# Altium integrated library Library.IntLib: 629 symbols (part 3 of 21)
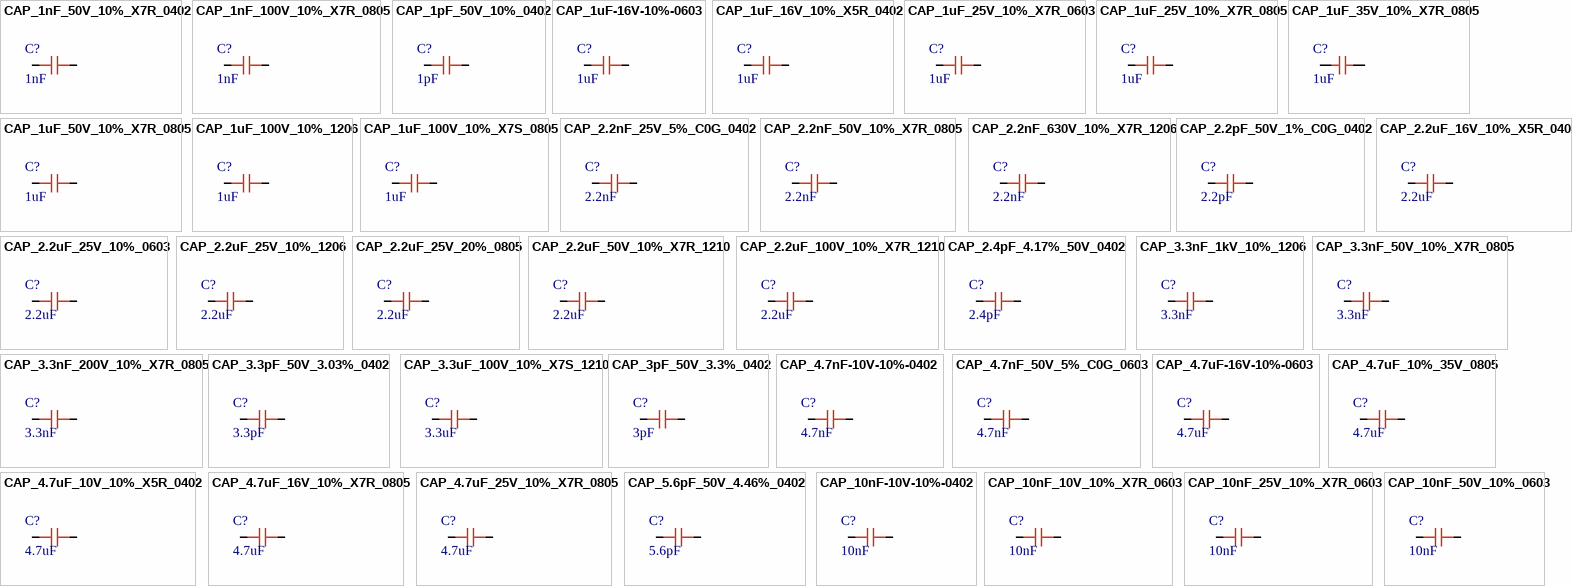
[diagram p20: symbols CAP_1nF_50V_10%_X7R_0402 to CAP_10nF_50V_10%_0603]

## CAP_2.2uF_16V_10%_X5R_0402
designator C?, comment 2.2uF
Ceramic Capacitor, Multilayer, Ceramic, 16V, 10% +Tol, 10% -Tol, X5R, 15% TC, 2.2uF, Surface Mount, 0402; Manufacturer: Yageo; Manufacturer Part Number: CC0402KRX5R7BB225; Multilayer: Yes; Supplier: Future Electronics; Supplier Part Number: 8114800; RoHS: Yes; Category: Ceramic Capacitors; Stock: 150000; Pricing: 10000=0.017, 30000=0.0164, 40000=0.0163, 100000=0.0158, 150000=0.0153 (USD); Mounting Technology: Surface Mount; Pins: 2; Dielectric Material: Ceramic; Package Shape: Rectangular; Case/Package: 0402; Terminal Finish: Nickel; Min Operating Temperature: -55°C; Max Operating Temperature: 85°C; JESD-609 Code: e3; Value: 2.2uF; Capacitor Type: Ceramic; Tolerance  (fill in as +-): 10%; Package Style: SMTMeter; Packaging: Tape and Reel; Tolerance (fill in as +-): 10%; Rated DC Voltage (URdc): 16V; Temperature Characteristics Code: X5R; Termination: Wraparound; Length: 1mm; Width: 0.5mm; Height: 0.5mm; Reach SVHC Compliant: Yes; RoHS Compliant: Yes; ComponentLink1URL: https://datasheet.ciiva.com:443/pdfs/VipMasterIC/IC/YAGO/YAGO-S-A0006851646/YAGO-S-A0006851646-1.pdf?src-supplier=IHS+Markit; ComponentLink1Description: https://datasheet.ciiva.com:443/pdfs/VipMasterIC/IC/YAGO/YAGO-S-A0006851646/YAGO-S-A0006851646-1.pdf?src-supplier=IHS+Markit; ComponentLink2URL: http://www.mouser.com/ds/2/447/Yageo_UPY-GP_NP0_16V-to-50V_9-358835.pdf?src-supplier=Mouser; ComponentLink2Description: http://www.mouser.com/ds/2/447/Yageo_UPY-GP_NP0_16V-to-50V_9-358835.pdf?src-supplier=Mouser; ComponentLink3URL: http://www.yageo.com/documents/recent/UPY-GPHC_X5R_4V-to-50V_25.pdf?src-supplier=Digikey; ComponentLink3Description: http://www.yageo.com/documents/recent/UPY-GPHC_X5R_4V-to-50V_25.pdf?src-supplier=Digikey; ComponentLink4URL: https://www.yageo.com/upload/media/product/productsearch/datasheet/mlcc/UPY-GPHC_X5R_4V-to-50V_25.pdf?src-supplier=Digikey; ComponentLink4Description: https://www.yageo.com/upload/media/product/productsearch/datasheet/mlcc/UPY-GPHC_X5R_4V-to-50V_25.pdf?src-supplier=Digikey; ComponentLink5URL: https://datasheet.octopart.com/CC0402KRX5R7BB225-Yageo-datasheet-158238148.pdf?src-supplier=Newark; ComponentLink5Description: https://datasheet.octopart.com/CC0402KRX5R7BB225-Yageo-datasheet-158238148.pdf?src-supplier=Newark; ComponentLink6URL: https://datasheet.octopart.com/CC0402KRX5R7BB225-Yageo-datasheet-137700082.pdf?src-supplier=Future+Electronics; ComponentLink6Description: https://datasheet.octopart.com/CC0402KRX5R7BB225-Yageo-datasheet-137700082.pdf?src-supplier=Future+Electronics; ComponentLink7URL: https://datasheet.octopart.com/CC0402KRX5R7BB225-Yageo-datasheet-158238148.pdf?src-supplier=Farnell; ComponentLink7Description: https://datasheet.octopart.com/CC0402KRX5R7BB225-Yageo-datasheet-158238148.pdf?src-supplier=Farnell
footprint CAP_0402
pins: 1, 2

## CAP_2.2uF_25V_10%_0603
designator C?, comment 2.2uF
Multilayer Ceramic Capacitor, 2.2 uF, 25 V, ± 10%, X5R, 0603 [1608 Metric]; Manufacturer: TDK; Manufacturer Part Number: C1608X5R1E225K080AB; Material: 4241ConductorMaterial; Voltage Rating (DC): 25V; Supplier 1: Digi-Key; RoHS: Yes; Category: Ceramic Capacitors; Stock 1: 49100; Pricing 1: 1=0.17, 10=0.116, 50=0.0696, 100=0.0588, 500=0.04026, 1000=0.03561 (USD); Mount: Surface Mount; Case/Package: 0603; Dielectric Material: Ceramic; Case Code (Metric): 1608; Case Code (Imperial): 0603; Weight: 7.1E-05oz; Min Operating Temperature: -55°C; Max Operating Temperature: 85°C; Capacitance: 2.2uF; Tolerance: 10%; Packaging: Tape and Reel; Dielectric: X5R; Package Quantity: 4000; Voltage Rating: 25V; Termination: SMD/SMT; Series: C; Length: 1.6mm; Width: 0.8mm; Height: 0.8mm; Depth: 0.8mm; Radiation Hardening: No; Lead Free: Lead Free; Reach SVHC Compliant: No; RoHS Compliant: Yes; ComponentLink1URL: https://datasheet.ciiva.com/28451/1796654-28451166.pdf?src-supplier=Element14; ComponentLink1Description: https://datasheet.ciiva.com/28451/1796654-28451166.pdf?src-supplier=Element14; ComponentLink2URL: https://datasheet.ciiva.com/28693/mlcc-commercial-general-en-28693433.pdf?src-supplier=Element14; ComponentLink2Description: https://datasheet.ciiva.com/28693/mlcc-commercial-general-en-28693433.pdf?src-supplier=Element14; ComponentLink3URL: https://datasheet.ciiva.com/6290/tdkmlcccaprange-6290830.pdf?src-supplier=Digi-Key; ComponentLink3Description: https://datasheet.ciiva.com/6290/tdkmlcccaprange-6290830.pdf?src-supplier=Digi-Key; ComponentLink4URL: https://datasheet.ciiva.com/26834/getdatasheetpartid-750446-26834363.pdf?src-supplier=Verical; ComponentLink4Description: https://datasheet.ciiva.com/26834/getdatasheetpartid-750446-26834363.pdf?src-supplier=Verical; ComponentLink5URL: https://datasheet.ciiva.com/24220/mlcc-commercial-general-en-24220495.pdf?src-supplier=Mouser; ComponentLink5Description: https://datasheet.ciiva.com/24220/mlcc-commercial-general-en-24220495.pdf?src-supplier=Mouser; Supplier Part Number 1: 445-5964-1-ND
footprint CAP_0603 (Chip Capacitor 0603, 2-Leads, Body 1.68x0.88mm, IPC Medium Density)
pins: 1, 2

## CAP_2.2uF_25V_10%_1206
designator C?, comment 2.2uF
Ceramic Capacitor, Multilayer, Ceramic, 25V, 10% +Tol, 10% -Tol, X7R, 15% TC, 2.2uF, Surface Mount, 1206; Manufacturer: Taiyo Yuden; Manufacturer Part Number: TMK316B7225KL-T; Multilayer: Yes; Supplier: Digikey; Supplier Part Number: 587-1329-1-ND; RoHS: Yes; Category: Ceramic Capacitors; Stock: 48732; Pricing: 1=0.28, 10=0.162, 100=0.1042, 1000=0.07405 (USD); Mounting Technology: Surface Mount; Pins: 2; Dielectric Material: Ceramic; Package Shape: Rectangular; Case/Package: 1206; Terminal Finish: Tin; Min Operating Temperature: -55°C; Max Operating Temperature: 125°C; JESD-609 Code: e3; Value: 2.2uF; Capacitor Type: Ceramic; Tolerance  (fill in as +-): 10%; Package Style: SMTMeter; Packaging: Tape and Reel; Tolerance (fill in as +-): 10%; Rated DC Voltage (URdc): 25V; Temperature Characteristics Code: X7R; Termination: Wraparound; Length: 3.2mm; Width: 1.6mm; Height: 1.6mm; Reach SVHC Compliant: Yes; RoHS Compliant: Yes; ComponentLink1URL: https://datasheet.ciiva.com:443/pdfs/VipMasterIC/IC/TAIY/TAIY-S-A0007941248/TAIY-S-A0007940709-1.pdf?src-supplier=IHS+Markit; ComponentLink1Description: https://datasheet.ciiva.com:443/pdfs/VipMasterIC/IC/TAIY/TAIY-S-A0007941248/TAIY-S-A0007940709-1.pdf?src-supplier=IHS+Markit; ComponentLink2URL: https://datasheet.ciiva.com/137/tmk316b7225kl-t-ss-137190.pdf?src-supplier=Digikey; ComponentLink2Description: https://datasheet.ciiva.com/137/tmk316b7225kl-t-ss-137190.pdf?src-supplier=Digikey; ComponentLink3URL: https://datasheet.ciiva.com/30067/322tmk316b7225kl-t-30067429.pdf?src-supplier=Onlinecomponents.com; ComponentLink3Description: https://datasheet.ciiva.com/30067/322tmk316b7225kl-t-30067429.pdf?src-supplier=Onlinecomponents.com; ComponentLink4URL: https://datasheet.ciiva.com/7975/746258-7975596.pdf?src-supplier=Element14; ComponentLink4Description: https://datasheet.ciiva.com/7975/746258-7975596.pdf?src-supplier=Element14; ComponentLink5URL: https://datasheet.ciiva.com/7975/746258-7975836.pdf?src-supplier=Element14; ComponentLink5Description: https://datasheet.ciiva.com/7975/746258-7975836.pdf?src-supplier=Element14; ComponentLink6URL: https://datasheet.ciiva.com/28645/746258-28645285.pdf?src-supplier=Element14; ComponentLink6Description: https://datasheet.ciiva.com/28645/746258-28645285.pdf?src-supplier=Element14; ComponentLink7URL: https://datasheet.ciiva.com/15922/cmultilayerceramiccapacitor-15922408.pdf?src-supplier=Onlinecomponents.com; ComponentLink7Description: https://datasheet.ciiva.com/15922/cmultilayerceramiccapacitor-15922408.pdf?src-supplier=Onlinecomponents.com
footprint CAP_1206
pins: 1, 2

## CAP_2.2uF_25V_20%_0805
designator C?, comment 2.2uF
Ceramic Capacitor, Multilayer, Ceramic, 25V, 20% +Tol, 20% -Tol, X7R, 15% TC, 2.2uF, Surface Mount, 0805; Manufacturer: TDK; Manufacturer Part Number: C2012X7R1E225M125AB; Multilayer: Yes; Supplier: Arrow Electronics; Supplier Part Number: C2012X7R1E225M125AB; RoHS: Yes; Category: Ceramic Capacitors; Stock: 3554; Pricing: 1=0.0608, 10=0.0363, 25=0.0359, 50=0.0355, 100=0.0333, 250=0.0311, 500=0.0288, 1000=0.0266, 3000=0.0243 (USD); Mounting Technology: Surface Mount; Pins: 2; Dielectric Material: Ceramic; Package Shape: Rectangular; Case/Package: 0805; Terminal Finish: Nickel; Min Operating Temperature: -55°C; Max Operating Temperature: 125°C; JESD-609 Code: e3; Value: 2.2uF; Capacitor Type: Ceramic; Tolerance  (fill in as +-): 20%; Package Style: SMTMeter; Packaging: Tape and Reel; Tolerance (fill in as +-): 20%; Rated DC Voltage (URdc): 25V; Temperature Characteristics Code: X7R; Termination: Wraparound; Length: 2mm; Width: 1.25mm; Height: 1.25mm; Reach SVHC Compliant: Yes; RoHS Compliant: Yes; ComponentLink1URL: https://datasheet.ciiva.com:443/pdfs/VipMasterIC/IC/TDKC/TDKC-S-A0008796792/TDKC-S-A0008796792-1.pdf?src-supplier=IHS+Markit; ComponentLink1Description: https://datasheet.ciiva.com:443/pdfs/VipMasterIC/IC/TDKC/TDKC-S-A0008796792/TDKC-S-A0008796792-1.pdf?src-supplier=IHS+Markit; ComponentLink2URL: https://datasheet.ciiva.com/24217/c2012x7r1e225m125ab-265010-24217309.pdf?src-supplier=Mouser; ComponentLink2Description: https://datasheet.ciiva.com/24217/c2012x7r1e225m125ab-265010-24217309.pdf?src-supplier=Mouser; ComponentLink3URL: https://datasheet.ciiva.com/6252/tdkmlcccaprange-6252327.pdf?src-supplier=Digikey; ComponentLink3Description: https://datasheet.ciiva.com/6252/tdkmlcccaprange-6252327.pdf?src-supplier=Digikey; ComponentLink4URL: https://datasheet.ciiva.com/6252/tdkmlcccaprange-6252331.pdf?src-supplier=Digikey; ComponentLink4Description: https://datasheet.ciiva.com/6252/tdkmlcccaprange-6252331.pdf?src-supplier=Digikey; ComponentLink5URL: https://datasheet.ciiva.com/6252/tdkmlcccaprange-6252335.pdf?src-supplier=Digikey; ComponentLink5Description: https://datasheet.ciiva.com/6252/tdkmlcccaprange-6252335.pdf?src-supplier=Digikey
footprint CAP_1206
pins: 1, 2

## CAP_2.2uF_50V_10%_X7R_1210
designator C?, comment 2.2uF
Ceramic Capacitor, Multilayer, Ceramic, 50V, 10% +Tol, 10% -Tol, X7R, 15% TC, 2.2uF, Surface Mount, 1210; Manufacturer: KEMET; Manufacturer Part Number: C1210C225K5RACTU; Multilayer: Yes; Supplier: Digi-Key; Supplier Part Number: 399-C1210C225K5RAC7800CT-ND; RoHS: Yes; Category: Ceramic Capacitors; Stock: 58852; Pricing: 1=0.56, 10=0.373, 50=0.2972, 100=0.2454, 500=0.1917, 1000=0.16294 (USD); Mounting Technology: Surface Mount; Pins: 2; Terminal Finish: Nickel; Dielectric Material: Ceramic; Package Shape: Rectangular; Case/Package: 1210; Min Operating Temperature: -55°C; Max Operating Temperature: 125°C; JESD-609 Code: e3; Value: 2.2uF; Capacitor Type: Ceramic; Tolerance  (fill in as +-): 10%; Package Style: SMTMeter; Packaging: Tape and Reel; Tolerance (fill in as +-): 10%; Rated DC Voltage (URdc): 50V; Temperature Characteristics Code: X7R; Termination: Wraparound; Length: 3.2mm; Width: 2.5mm; Height: 1.25mm; Reach SVHC Compliant: Yes; RoHS Compliant: Yes; ComponentLink1URL: https://datasheet.ciiva.com:443/pdfs/VipMasterIC/IC/KEME/KEME-S-A0008991654/KEME-S-A0008991654-1.pdf?src-supplier=IHS+Markit; ComponentLink1Description: https://datasheet.ciiva.com:443/pdfs/VipMasterIC/IC/KEME/KEME-S-A0008991654/KEME-S-A0008991654-1.pdf?src-supplier=IHS+Markit; ComponentLink2URL: https://datasheet.ciiva.com/7807/1693454-7807221.pdf?src-supplier=Element14; ComponentLink2Description: https://datasheet.ciiva.com/7807/1693454-7807221.pdf?src-supplier=Element14; ComponentLink3URL: https://datasheet.ciiva.com/7807/1693454-7807222.pdf?src-supplier=Element14; ComponentLink3Description: https://datasheet.ciiva.com/7807/1693454-7807222.pdf?src-supplier=Element14
footprint CAP_1210
pins: 1, 2

## CAP_2.2uF_100V_10%_X7R_1210
designator C?, comment 2.2uF
Ceramic Capacitor, Multilayer, Ceramic, 100V, 10% +Tol, 10% -Tol, X7R, 15% TC, 2.2uF, Surface Mount, 1210; Manufacturer: KEMET; Manufacturer Part Number: C1210C225K1RACTU; Multilayer: Yes; Supplier: Mouser; Supplier Part Number: 80-C1210C225K1R; RoHS: Yes; Category: Ceramic Capacitors; Stock: 86615; Pricing: 1=0.69, 10=0.466, 50=0.466, 100=0.306, 1000=0.206, 10000=0.159 (USD); Mounting Technology: Surface Mount; Pins: 2; Dielectric Material: Ceramic; Package Shape: Rectangular; Case/Package: 1210; Terminal Finish: Nickel; Min Operating Temperature: -55°C; Max Operating Temperature: 125°C; JESD-609 Code: e3; Termination: Wraparound; Value: 2.2uF; Capacitor Type: Ceramic; Tolerance  (fill in as +-): 10%; Package Style: SMTMeter; Packaging: Tape and Reel; Tolerance (fill in as +-): 10%; Rated DC Voltage (URdc): 100V; Temperature Characteristics Code: X7R; Length: 3.2mm; Width: 2.5mm; Height: 1.9mm; Reach SVHC Compliant: Yes; RoHS Compliant: Yes; ComponentLink1URL: https://datasheet.ciiva.com:443/pdfs/VipMasterIC/IC/KEME/KEME-S-A0008991654/KEME-S-A0008991654-1.pdf?src-supplier=IHS+Markit; ComponentLink1Description: https://datasheet.ciiva.com:443/pdfs/VipMasterIC/IC/KEME/KEME-S-A0008991654/KEME-S-A0008991654-1.pdf?src-supplier=IHS+Markit; ComponentLink2URL: https://datasheet.ciiva.com/16624/datasheetpn-c1210c225k1rac7800-16624822.pdf?; ComponentLink2Description: https://datasheet.ciiva.com/16624/datasheetpn-c1210c225k1rac7800-16624822.pdf?; ComponentLink3URL: https://datasheet.ciiva.com/7807/kem-c1002-x7r-smd-7807527.pdf?src-supplier=Element14; ComponentLink3Description: https://datasheet.ciiva.com/7807/kem-c1002-x7r-smd-7807527.pdf?src-supplier=Element14
footprint CAP_1210
pins: 1, 2

## CAP_2.4pF_4.17%_50V_0402
designator C?, comment 2.4pF
Ceramic Capacitor, Multilayer, Ceramic, 50V, 4.17% +Tol, 4.17% -Tol, C0G, 30ppm/Cel TC, 0.0000024uF, Surface Mount, 0402; Manufacturer: Murata; Manufacturer Part Number: GJM1555C1H2R4BB01D; Multilayer: Yes; Supplier: Mouser; Supplier Part Number: 81-GJM1555C1H2R4BB01; RoHS: Yes; Category: Ceramic Capacitors; Stock: 42734; Pricing: 1=0.1, 10=0.04, 50=0.04, 100=0.025, 1000=0.022, 10000=0.013 (USD); Mounting Technology: Surface Mount; Pins: 2; Dielectric Material: Ceramic; Package Shape: Rectangular; Case/Package: 0402; Terminal Finish: Nickel; Min Operating Temperature: -55°C; Max Operating Temperature: 125°C; JESD-609 Code: e3; Value: 2.4pF; Capacitor Type: Ceramic; Tolerance  (fill in as +-): 4.17%; Package Style: SMTMeter; Packaging: Tape and Reel; Tolerance (fill in as +-): 4.17%; Rated DC Voltage (URdc): 50V; Temperature Characteristics Code: C0G; Termination: Wraparound; Length: 1mm; Width: 0.5mm; Height: 0.5mm; Reach SVHC Compliant: Yes; RoHS Compliant: Yes; ComponentLink1URL: https://datasheet.ciiva.com:443/pdfs/VipMasterIC/IC/MURE/MURE-S-A0004378008/MURE-S-A0004383707-1.pdf?src-supplier=IHS+Markit; ComponentLink1Description: https://datasheet.ciiva.com:443/pdfs/VipMasterIC/IC/MURE/MURE-S-A0004378008/MURE-S-A0004383707-1.pdf?src-supplier=IHS+Markit; ComponentLink2URL: https://datasheet.ciiva.com/29541/partnumbering-e-01-29541979.pdf?src-supplier=Digikey; ComponentLink2Description: https://datasheet.ciiva.com/29541/partnumbering-e-01-29541979.pdf?src-supplier=Digikey; ComponentLink3URL: https://datasheet.ciiva.com/29541/partnumbering-e-01-29541980.pdf?src-supplier=Digikey; ComponentLink3Description: https://datasheet.ciiva.com/29541/partnumbering-e-01-29541980.pdf?src-supplier=Digikey; ComponentLink4URL: https://datasheet.ciiva.com/29541/partnumbering-e-01-29541981.pdf?src-supplier=Digikey; ComponentLink4Description: https://datasheet.ciiva.com/29541/partnumbering-e-01-29541981.pdf?src-supplier=Digikey
footprint CAP_0402
pins: 1, 2

## CAP_3.3nF_1kV_10%_1206
designator C?, comment 3.3nF
Ceramic Capacitor, Multilayer, Ceramic, 1000V, 10% +Tol, 10% -Tol, X7R, 15% TC, 0.0033uF, Surface Mount, 1206; Manufacturer: Yageo; Manufacturer Part Number: CC1206KKX7RCBB332; Multilayer: Yes; Rated DC Voltage (URdc): 1kV; Supplier: Rs; Supplier Part Number: 1992038; RoHS: Yes; Category: Ceramic Capacitors; Stock: 650; Pricing: 1=0.1136, 5=0.0966, 10=0.0738, 20=0.0624 (EUR); Mounting Technology: Surface Mount; Pins: 2; Dielectric Material: Ceramic; Package Shape: Rectangular; Case/Package: 1206; Terminal Finish: Nickel; Min Operating Temperature: -55°C; Max Operating Temperature: 125°C; JESD-609 Code: e3; Value: 3.3nF; Capacitor Type: Ceramic; Tolerance  (fill in as +-): 10%; Package Style: SMTMeter; Packaging: Tape and Reel; Tolerance (fill in as +-): 10%; Temperature Characteristics Code: X7R; Termination: Wraparound; Length: 3.2mm; Width: 1.6mm; Height: 1.25mm; Reach SVHC Compliant: Yes; RoHS Compliant: Yes; ComponentLink1URL: https://datasheet.ciiva.com:443/pdfs/VipMasterIC/IC/YAGO/YAGO-S-A0000113014/YAGO-S-A0000113014-1.pdf?src-supplier=IHS+Markit; ComponentLink1Description: https://datasheet.ciiva.com:443/pdfs/VipMasterIC/IC/YAGO/YAGO-S-A0000113014/YAGO-S-A0000113014-1.pdf?src-supplier=IHS+Markit; ComponentLink2URL: https://datasheet.ciiva.com/26863/getdatasheetpartid-655487-26863105.pdf?src-supplier=Verical; ComponentLink2Description: https://datasheet.ciiva.com/26863/getdatasheetpartid-655487-26863105.pdf?src-supplier=Verical; ComponentLink3URL: https://datasheet.ciiva.com/13209/upy-gp-np0-16v-to-50v-8-13209676.pdf?src-supplier=Mouser; ComponentLink3Description: https://datasheet.ciiva.com/13209/upy-gp-np0-16v-to-50v-8-13209676.pdf?src-supplier=Mouser
footprint CAP_1206
pins: 1, 2

## CAP_3.3nF_50V_10%_X7R_0805
designator C?, comment 3.3nF
Ceramic Capacitor, Multilayer, Ceramic, 50V, 10% +Tol, 10% -Tol, X7R, 15% TC, 0.0033uF, Surface Mount, 0805; Manufacturer: KEMET; Manufacturer Part Number: C0805C332K5RACTU; Multilayer: Yes; Supplier: Mouser; Supplier Part Number: 80-C0805C332K5R; RoHS: Yes; Category: Ceramic Capacitors; Stock: 47904; Pricing: 1=0.1, 10=0.033, 50=0.033, 100=0.019, 1000=0.014, 10000=0.01 (USD); Mounting Technology: Surface Mount; Pins: 2; Dielectric Material: Ceramic; Package Shape: Rectangular; Case/Package: 0805; Terminal Finish: Nickel; Min Operating Temperature: -55°C; Max Operating Temperature: 125°C; JESD-609 Code: e3; Value: 3.3nF; Capacitor Type: Ceramic; Tolerance  (fill in as +-): 10%; Packaging: Tape and Reel; Tolerance (fill in as +-): 10%; Rated DC Voltage (URdc): 50V; Temperature Characteristics Code: X7R; Termination: Wraparound; Reach SVHC Compliant: Yes; RoHS Compliant: Yes; ComponentLink1URL: https://datasheet.ciiva.com:443/pdfs/VipMasterIC/IC/KEME/KEME-S-A0000339944/KEME-S-A0000339944-1.pdf?src-supplier=IHS+Markit; ComponentLink1Description: https://datasheet.ciiva.com:443/pdfs/VipMasterIC/IC/KEME/KEME-S-A0000339944/KEME-S-A0000339944-1.pdf?src-supplier=IHS+Markit; ComponentLink2URL: https://datasheet.ciiva.com/7842/1851736-7842314.pdf?src-supplier=Element14; ComponentLink2Description: https://datasheet.ciiva.com/7842/1851736-7842314.pdf?src-supplier=Element14; ComponentLink3URL: https://datasheet.ciiva.com/14589/70095383-14589486.pdf?src-supplier=Allied+Electronics; ComponentLink3Description: https://datasheet.ciiva.com/14589/70095383-14589486.pdf?src-supplier=Allied+Electronics; ComponentLink4URL: https://datasheet.ciiva.com/5415/kem-c1002-x7r-smd-357932-5415032.pdf?src-supplier=Mouser; ComponentLink4Description: https://datasheet.ciiva.com/5415/kem-c1002-x7r-smd-357932-5415032.pdf?src-supplier=Mouser; ComponentLink5URL: https://datasheet.ciiva.com/26948/getdatasheetpartid-385720-26948486.pdf?src-supplier=Verical; ComponentLink5Description: https://datasheet.ciiva.com/26948/getdatasheetpartid-385720-26948486.pdf?src-supplier=Verical; ComponentLink6URL: https://datasheet.ciiva.com/7842/kem-c1002-x7r-smd-7842598.pdf?src-supplier=Element14; ComponentLink6Description: https://datasheet.ciiva.com/7842/kem-c1002-x7r-smd-7842598.pdf?src-supplier=Element14
footprint CAP_0805
pins: 1, 2

## CAP_3.3nF_200V_10%_X7R_0805
designator C?, comment 3.3nF
Ceramic Capacitor, Multilayer, Ceramic, 200V, 10% +Tol, 10% -Tol, X7R, 15% TC, 0.0033uF, Surface Mount, 0805; Manufacturer: Kyocera AVX; Manufacturer Part Number: 08052C332KAT2A; Multilayer: Yes; Supplier: Rs; Supplier Part Number: 1356665; RoHS: Yes; Category: Ceramic Capacitors; Stock: 1300; Pricing: 100=0.088, 500=0.082, 1000=0.075, 2500=0.07, 5000=0.064 (EUR); Mounting Technology: Surface Mount; Pins: 2; Dielectric Material: Ceramic; Package Shape: Rectangular; Case/Package: 0805; Terminal Finish: Nickel; Min Operating Temperature: -55°C; Max Operating Temperature: 125°C; JESD-609 Code: e3; Value: 3.3nF; Capacitor Type: Ceramic; Tolerance  (fill in as +-): 10%; Package Style: SMTMeter; Packaging: Tape and Reel; Tolerance (fill in as +-): 10%; Rated DC Voltage (URdc): 200V; Temperature Characteristics Code: X7R; Termination: Wraparound; Length: 2.01mm; Width: 1.25mm; Height: 0.94mm; Reach SVHC Compliant: Yes; RoHS Compliant: Yes; ComponentLink1URL: https://datasheet.ciiva.com:443/pdfs/VipMasterIC/IC/AVXC/AVXC-S-A0009640452/AVXC-S-A0009640452-1.pdf?src-supplier=IHS+Markit; ComponentLink1Description: https://datasheet.ciiva.com:443/pdfs/VipMasterIC/IC/AVXC/AVXC-S-A0009640452/AVXC-S-A0009640452-1.pdf?src-supplier=IHS+Markit; ComponentLink2URL: https://datasheet.ciiva.com/26904/getdatasheetpartid-564906-26904203.pdf?src-supplier=Verical; ComponentLink2Description: https://datasheet.ciiva.com/26904/getdatasheetpartid-564906-26904203.pdf?src-supplier=Verical; ComponentLink3URL: https://datasheet.ciiva.com/5423/cx7r-218113-5423334.pdf?src-supplier=Mouser; ComponentLink3Description: https://datasheet.ciiva.com/5423/cx7r-218113-5423334.pdf?src-supplier=Mouser; ComponentLink4URL: https://datasheet.ciiva.com/152/cx7r-152246.pdf?src-supplier=Digikey; ComponentLink4Description: https://datasheet.ciiva.com/152/cx7r-152246.pdf?src-supplier=Digikey; ComponentLink5URL: https://datasheet.ciiva.com/152/cx7r-152247.pdf?src-supplier=Digikey; ComponentLink5Description: https://datasheet.ciiva.com/152/cx7r-152247.pdf?src-supplier=Digikey; ComponentLink6URL: https://datasheet.ciiva.com/152/cx7r-152248.pdf?src-supplier=Digikey; ComponentLink6Description: https://datasheet.ciiva.com/152/cx7r-152248.pdf?src-supplier=Digikey
footprint CAP_0805
pins: 1, 2

## CAP_3.3pF_50V_3.03%_0402
designator C?, comment 3.3pF
Ceramic Capacitor, Multilayer, Ceramic, 50V, 3.03% +Tol, 3.03% -Tol, C0G, 30ppm/Cel TC, 0.0000033uF, Surface Mount, 0402; Manufacturer: Murata; Manufacturer Part Number: GJM1555C1H3R3BB01D; Multilayer: Yes; Supplier: Mouser; Supplier Part Number: 81-GJM1555C1H3R3BB01; RoHS: Yes; Category: Ceramic Capacitors; Stock: 74193; Pricing: 1=0.12, 10=0.057, 50=0.057, 100=0.034, 1000=0.025, 10000=0.017 (USD); Mounting Technology: Surface Mount; Pins: 2; Dielectric Material: Ceramic; Package Shape: Rectangular; Case/Package: 0402; Terminal Finish: Nickel; Min Operating Temperature: -55°C; Max Operating Temperature: 125°C; JESD-609 Code: e3; Value: 3.3pF; Capacitor Type: Ceramic; Tolerance  (fill in as +-): 3.03%; Package Style: SMTMeter; Packaging: Tape and Reel; Tolerance (fill in as +-): 3.03%; Rated DC Voltage (URdc): 50V; Temperature Characteristics Code: C0G; Termination: Wraparound; Length: 1mm; Width: 0.5mm; Height: 0.5mm; Reach SVHC Compliant: Yes; RoHS Compliant: Yes; ComponentLink1URL: https://datasheet.ciiva.com:443/pdfs/VipMasterIC/IC/MURE/MURE-S-A0008911154/MURE-S-A0008911150-1.pdf?src-supplier=IHS+Markit; ComponentLink1Description: https://datasheet.ciiva.com:443/pdfs/VipMasterIC/IC/MURE/MURE-S-A0008911154/MURE-S-A0008911150-1.pdf?src-supplier=IHS+Markit; ComponentLink2URL: https://datasheet.ciiva.com/8030/1700175-8030120.pdf?src-supplier=Element14; ComponentLink2Description: https://datasheet.ciiva.com/8030/1700175-8030120.pdf?src-supplier=Element14; ComponentLink3URL: https://datasheet.ciiva.com/11614/product-11614199.pdf?src-supplier=Avnet; ComponentLink3Description: https://datasheet.ciiva.com/11614/product-11614199.pdf?src-supplier=Avnet
footprint CAP_0402
pins: 1, 2

## CAP_3.3uF_100V_10%_X7S_1210
designator C?, comment 3.3uF
Ceramic Capacitor, Multilayer, Ceramic, 100V, 10% +Tol, 10% -Tol, X7S, 22% TC, 3.3uF, Surface Mount, 1210; Manufacturer: TDK; Manufacturer Part Number: C3225X7S2A335K200AB; Multilayer: Yes; Supplier: Mouser; Supplier Part Number: 810-C3225X7S2A335K; RoHS: Yes; Category: Ceramic Capacitors; Stock: 85774; Pricing: 1=0.61, 10=0.394, 50=0.394, 100=0.348, 1000=0.27, 10000=0.228 (USD); Mounting Technology: Surface Mount; Pins: 2; Dielectric Material: Ceramic; Package Shape: Rectangular; Case/Package: 1210; Terminal Finish: Nickel; Min Operating Temperature: -55°C; Max Operating Temperature: 125°C; JESD-609 Code: e3; Value: 3.3uF; Capacitor Type: Ceramic; Tolerance  (fill in as +-): 10%; Package Style: SMTMeter; Packaging: Tape and Reel; Tolerance (fill in as +-): 10%; Rated DC Voltage (URdc): 100V; Temperature Characteristics Code: X7S; Termination: Wraparound; Length: 3.2mm; Width: 2.5mm; Height: 2mm; Reach SVHC Compliant: Yes; RoHS Compliant: Yes; ComponentLink1URL: https://datasheet.ciiva.com:443/pdfs/VipMasterIC/IC/TDKC/TDKC-S-A0008591847/TDKC-S-A0008591847-1.pdf?src-supplier=IHS+Markit; ComponentLink1Description: https://datasheet.ciiva.com:443/pdfs/VipMasterIC/IC/TDKC/TDKC-S-A0008591847/TDKC-S-A0008591847-1.pdf?src-supplier=IHS+Markit; ComponentLink2URL: http://components.arrow.com/part/dataview/57434406S459360N1165?src-supplier=Arrow+Electronics; ComponentLink2Description: http://components.arrow.com/part/dataview/57434406S459360N1165?src-supplier=Arrow+Electronics; ComponentLink3URL: https://product.tdk.com/info/en/documents/chara_sheet/C3225X7S2A335K200AB.pdf?src-supplier=Digikey; ComponentLink3Description: https://product.tdk.com/info/en/documents/chara_sheet/C3225X7S2A335K200AB.pdf?src-supplier=Digikey; ComponentLink4URL: https://product.tdk.com/info/en/catalog/datasheets/mlcc_commercial_midvoltage_en.pdf?ref_disty=digikey&src-supplier=Digikey; ComponentLink4Description: https://product.tdk.com/info/en/catalog/datasheets/mlcc_commercial_midvoltage_en.pdf?ref_disty=digikey&src-supplier=Digikey; ComponentLink5URL: https://4donline.ihs.com/images/VipMasterIC/IC/TDKC/TDKC-S-A0000596732/TDKC-S-A0000596732-1.pdf?hkey=52A5661711E402568146F3353EA87419&src-supplier=Farnell; ComponentLink5Description: https://4donline.ihs.com/images/VipMasterIC/IC/TDKC/TDKC-S-A0000596732/TDKC-S-A0000596732-1.pdf?hkey=52A5661711E402568146F3353EA87419&src-supplier=Farnell; ComponentLink6URL: https://4donline.ihs.com/images/VipMasterIC/IC/TDKC/TDKC-S-A0000596732/TDKC-S-A0000596732-1.pdf?hkey=52A5661711E402568146F3353EA87419&src-supplier=Newark; ComponentLink6Description: https://4donline.ihs.com/images/VipMasterIC/IC/TDKC/TDKC-S-A0000596732/TDKC-S-A0000596732-1.pdf?hkey=52A5661711E402568146F3353EA87419&src-supplier=Newark; ComponentLink7URL: https://datasheet.octopart.com/C3225X7S2A335K200AB-TDK-datasheet-10497308.pdf?src-supplier=Future+Electronics; ComponentLink7Description: https://datasheet.octopart.com/C3225X7S2A335K200AB-TDK-datasheet-10497308.pdf?src-supplier=Future+Electronics; ComponentLink8URL: https://datasheet.octopart.com/C3225X7S2A335K200AB-TDK-datasheet-43914167.pdf?src-supplier=Newark; ComponentLink8Description: https://datasheet.octopart.com/C3225X7S2A335K200AB-TDK-datasheet-43914167.pdf?src-supplier=Newark; ComponentLink9URL: http://www.farnell.com/datasheets/2860696.pdf?src-supplier=Newark; ComponentLink9Description: http://www.farnell.com/datasheets/2860696.pdf?src-supplier=Newark; ComponentLink10URL: http://www.farnell.com/datasheets/1936671.pdf?src-supplier=Element14; ComponentLink10Description: http://www.farnell.com/datasheets/1936671.pdf?src-supplier=Element14; ComponentLink11URL: http://www.farnell.com/datasheets/1913358.pdf?src-supplier=Element14; ComponentLink11Description: http://www.farnell.com/datasheets/1913358.pdf?src-supplier=Element14
footprint CAP_1210
pins: 1, 2

## CAP_3pF_50V_3.3%_0402
designator C?, comment 3pF
Ceramic Capacitor, Multilayer, Ceramic, 50V, 3.33% +Tol, 3.33% -Tol, C0G, 30ppm/Cel TC, 0.000003uF, Surface Mount, 0402; Manufacturer: Murata; Manufacturer Part Number: GJM1555C1H3R0BB01D; Multilayer: Yes; Supplier: Mouser; Supplier Part Number: 81-GJM1555C1H3R0BB01; RoHS: Yes; Category: Ceramic Capacitors; Stock: 135633; Pricing: 1=0.11, 10=0.057, 50=0.057, 100=0.034, 1000=0.022, 10000=0.014 (USD); Mounting Technology: Surface Mount; Pins: 2; Dielectric Material: Ceramic; Package Shape: Rectangular; Case/Package: 0402; Terminal Finish: Nickel; Min Operating Temperature: -55°C; Max Operating Temperature: 125°C; JESD-609 Code: e3; Value: 3pF; Capacitor Type: Ceramic; Tolerance  (fill in as +-): 3.33%; Package Style: SMTMeter; Packaging: Tape and Reel; Tolerance (fill in as +-): 3.33%; Rated DC Voltage (URdc): 50V; Temperature Characteristics Code: C0G; Termination: Wraparound; Length: 1mm; Width: 0.5mm; Height: 0.5mm; Reach SVHC Compliant: Yes; RoHS Compliant: Yes; ComponentLink1URL: https://datasheet.ciiva.com:443/pdfs/VipMasterIC/IC/MURE/MURE-S-A0008911154/MURE-S-A0008911143-1.pdf?src-supplier=IHS+Markit; ComponentLink1Description: https://datasheet.ciiva.com:443/pdfs/VipMasterIC/IC/MURE/MURE-S-A0008911154/MURE-S-A0008911143-1.pdf?src-supplier=IHS+Markit; ComponentLink2URL: https://datasheet.ciiva.com/29542/partnumbering-e-01-29542367.pdf?src-supplier=Digikey; ComponentLink2Description: https://datasheet.ciiva.com/29542/partnumbering-e-01-29542367.pdf?src-supplier=Digikey
footprint CAP_0402
pins: 1, 2

## CAP_4.7nF-10V-10%-0402
designator C?, comment 4.7nF
Super Low Distortion Multilayer Ceramic Capacitors, 10V, 4700 pF, ± 10 %, 0402, RoHS; Manufacturer: Taiyo Yuden; Manufacturer Part Number: LMK105SD472KV-F; Case/Package: 0402; Supplier-1: Digikey; Supplier 1: Digi-Key; Manufacturer 1: Taiyo Yuden; Manufacturer Part Number 1: LMK105SD472KV-F; RoHS: Yes; Category: Ceramic Capacitors; Stock 1: 18613; Pricing 1: 1=0.3, 10=0.207, 50=0.145, 100=0.1242, 500=0.09318, 1000=0.07868, 2500=0.07454, 5000=0.0704 (USD); ComponentLink1URL: https://datasheet.ciiva.com/25612/0900766b8109988b-25612786.pdf?src-supplier=Rs; ComponentLink1Description: https://datasheet.ciiva.com/25612/0900766b8109988b-25612786.pdf?src-supplier=Rs; ComponentLink2URL: https://datasheet.ciiva.com/31394/1760254-31394326.pdf?src-supplier=Farnell; ComponentLink2Description: https://datasheet.ciiva.com/31394/1760254-31394326.pdf?src-supplier=Farnell; ComponentLink3URL: https://datasheet.ciiva.com/138/lmk105sd472kv-f-ss-138081.pdf?src-supplier=Digi-Key; ComponentLink3Description: https://datasheet.ciiva.com/138/lmk105sd472kv-f-ss-138081.pdf?src-supplier=Digi-Key; ComponentLink4URL: https://datasheet.ciiva.com/138/mlcc07-e-138082.pdf?src-supplier=Digi-Key; ComponentLink4Description: https://datasheet.ciiva.com/138/mlcc07-e-138082.pdf?src-supplier=Digi-Key; ComponentLink5URL: https://datasheet.ciiva.com/138/mlcc07-e-138083.pdf?src-supplier=Digi-Key; ComponentLink5Description: https://datasheet.ciiva.com/138/mlcc07-e-138083.pdf?src-supplier=Digi-Key; Supplier Part Number 1: 587-1068-1-ND
footprint CAP_0402 (Capacitor)
pins: 1, 2

## CAP_4.7nF_50V_5%_C0G_0603
designator C?, comment 4.7nF
Multilayer Ceramic Capacitor, 4700 pF, 50 V, ± 5%, C0G (NP0), 0603 [1608 Metric]; Manufacturer: KEMET; Manufacturer Part Number: C0603C472J5GACTU; Material: 4241ConductorMaterial; Voltage: 50V; Temperature Coefficient: 30ppm/°C; Supplier: Digikey; Supplier Part Number: 399-C0603C472J5GAC7867CT-ND; RoHS: Yes; Category: Ceramic Capacitors; Stock: 52218; Pricing: 1=0.3, 10=0.195, 50=0.1436, 100=0.1169, 500=0.09226, 1000=0.07791 (USD); Mounting Technology: Surface Mount; Case/Package: 0603; Pins: 2NUMBER; Case Code (Imperial): 0603; Case Code (Metric): 1608; Dielectric Material: 4241ConductorMaterial; Min Operating Temperature: -55°C; Max Operating Temperature: 125°C; Tolerance: 5%; Value: 4.7nF; Dielectric: C0G; Packaging: Tape and Reel; Package Quantity: 1; Series: C; Termination: SMD/SMT; Construction: Flat; Voltage Rating (DC): 50V; Length: 1.6mm; Width: 0.031inch; Height: 0.8mm; Depth: 0.8mm; Thickness: 0.034inch; Radiation Hardening: No; Reach SVHC Compliant: No; RoHS Compliant: Yes; Lead Free: 5697LeadFree; ComponentLink1URL: https://datasheet.ciiva.com/6074/f9080b-0402-series-c0g-6074652.pdf?src-supplier=Farnell; ComponentLink1Description: https://datasheet.ciiva.com/6074/f9080b-0402-series-c0g-6074652.pdf?src-supplier=Farnell; ComponentLink2URL: https://datasheet.ciiva.com/7824/1372242-7824041.pdf?src-supplier=Element14; ComponentLink2Description: https://datasheet.ciiva.com/7824/1372242-7824041.pdf?src-supplier=Element14; ComponentLink3URL: https://datasheet.ciiva.com/28584/1372242-28584136.pdf?src-supplier=Element14; ComponentLink3Description: https://datasheet.ciiva.com/28584/1372242-28584136.pdf?src-supplier=Element14; ComponentLink4URL: https://datasheet.ciiva.com/5424/kem-c1003-c0g-smd-5424557.pdf?src-supplier=Mouser; ComponentLink4Description: https://datasheet.ciiva.com/5424/kem-c1003-c0g-smd-5424557.pdf?src-supplier=Mouser; ComponentLink5URL: https://datasheet.ciiva.com/18193/getdatasheetpartid-560209-18193082.pdf?src-supplier=Verical; ComponentLink5Description: https://datasheet.ciiva.com/18193/getdatasheetpartid-560209-18193082.pdf?src-supplier=Verical
footprint CAP_0603
pins: 1, 2

## CAP_4.7uF-16V-10%-0603
designator C?, comment 4.7uF
GRM Series 16 V 4.7 µF 0603 Surface Mount Multilayer Ceramic Chip Capacitor; Manufacturer: Murata Electronics; Manufacturer Part Number: GRM188R61C475KAAJD; Manufacturer 1: Murata; Case/Package: 0603; Supplier-1: Digikey; Supplier 1: Mouser; Manufacturer Part Number 1: GRM188R61C475KAAJD; RoHS: Yes; Category: Ceramic Capacitors; Stock 1: 707885; Pricing 1: 1=0.28, 10=0.194, 50=0.194, 100=0.117, 1000=0.074, 10000=0.06 (USD); ComponentLink1URL: https://datasheet.ciiva.com/14813/595grm188r61c475kaaj23-14813668.pdf?src-supplier=Arrow+Electronics; ComponentLink1Description: https://datasheet.ciiva.com/14813/595grm188r61c475kaaj23-14813668.pdf?src-supplier=Arrow+Electronics; Supplier Part Number 1: 81-GRM188R61C475KAJD
footprint CAP_0603 (Capacitor)
pins: 1, 2

## CAP_4.7uF_10%_35V_0805
designator C?, comment 4.7uF
Ceramic Capacitor, Multilayer, Ceramic, 35V, 10% +Tol, 10% -Tol, X5R, 15% TC, 4.7uF, Surface Mount, 0805; Manufacturer: Samsung; Manufacturer Part Number: CL21A475KLCLQNC; Multilayer: Yes; Supplier: Digikey; Supplier Part Number: 1276-6722-1-ND; RoHS: Yes; Category: Ceramic Capacitors; Stock: 177619; Pricing: 1=0.17, 10=0.097, 50=0.0676, 100=0.0588, 500=0.0436, 1000=0.03889 (USD); Mounting Technology: Surface Mount; Pins: 2; Dielectric Material: Ceramic; Package Shape: Rectangular; Case/Package: 0805; Min Operating Temperature: -55°C; Max Operating Temperature: 85°C; Value: 4.7uF; Capacitor Type: Ceramic; Tolerance  (fill in as +-): 10%; Packaging: Tape and Reel; Tolerance (fill in as +-): 10%; Rated DC Voltage (URdc): 35V; Temperature Characteristics Code: X5R; Termination: Wraparound; Reach SVHC Compliant: Yes; RoHS Compliant: Yes; ComponentLink1URL: https://datasheet.ciiva.com:443/pdfs/VipMasterIC/IC/SEMS/SEMS-S-A0008525088/SEMS-S-A0008525101-1.pdf?src-supplier=IHS+Markit; ComponentLink1Description: https://datasheet.ciiva.com:443/pdfs/VipMasterIC/IC/SEMS/SEMS-S-A0008525088/SEMS-S-A0008525101-1.pdf?src-supplier=IHS+Markit; ComponentLink2URL: http://www.samsungsem.com/kr/support/product-search/mlcc/CL21A475KLCLQNC.jsp?src-supplier=Digikey; ComponentLink2Description: http://www.samsungsem.com/kr/support/product-search/mlcc/CL21A475KLCLQNC.jsp?src-supplier=Digikey; ComponentLink3URL: https://datasheet.octopart.com/CL21A475KLCLQNC-Samsung-Electro-Mechanics-datasheet-136031818.pdf?src-supplier=Future+Electronics; ComponentLink3Description: https://datasheet.octopart.com/CL21A475KLCLQNC-Samsung-Electro-Mechanics-datasheet-136031818.pdf?src-supplier=Future+Electronics
footprint CAP_0805
pins: 1, 2

## CAP_4.7uF_10V_10%_X5R_0402
designator C?, comment 4.7uF
Ceramic Capacitor, Multilayer, Ceramic, 10V, 10% +Tol, 10% -Tol, X5R, 15% TC, 4.7uF, Surface Mount, 0402; Manufacturer: TDK; Manufacturer Part Number: C1005X5R1A475K050BC; Multilayer: Yes; Supplier: Avnet; Supplier Part Number: 68AH9424; RoHS: Yes; Category: Ceramic Capacitors; Stock: 20000; Pricing: 10000=0.088 (USD); Mounting Technology: Surface Mount; Pins: 2; Dielectric Material: Ceramic; Package Shape: Rectangular; Case/Package: 0402; Terminal Finish: Nickel; Min Operating Temperature: -55°C; Max Operating Temperature: 85°C; JESD-609 Code: e3; Value: 4.7uF; Capacitor Type: Ceramic; Tolerance  (fill in as +-): 10%; Package Style: SMTMeter; Packaging: Tape and Reel; Tolerance (fill in as +-): 10%; Rated DC Voltage (URdc): 10V; Temperature Characteristics Code: X5R; Termination: Wraparound; Length: 1mm; Width: 0.5mm; Height: 0.5mm; Reach SVHC Compliant: Yes; RoHS Compliant: Yes; ComponentLink1URL: https://datasheet.ciiva.com:443/pdfs/VipMasterIC/IC/TDKC/TDKC-S-A0008796792/TDKC-S-A0008796792-1.pdf?src-supplier=IHS+Markit; ComponentLink1Description: https://datasheet.ciiva.com:443/pdfs/VipMasterIC/IC/TDKC/TDKC-S-A0008796792/TDKC-S-A0008796792-1.pdf?src-supplier=IHS+Markit; ComponentLink2URL: https://datasheet.ciiva.com/14895/tdkmlcccaprange-14895671.pdf?src-supplier=Digikey; ComponentLink2Description: https://datasheet.ciiva.com/14895/tdkmlcccaprange-14895671.pdf?src-supplier=Digikey; ComponentLink3URL: https://datasheet.ciiva.com/14895/tdkmlcccaprange-14895670.pdf?src-supplier=Digikey; ComponentLink3Description: https://datasheet.ciiva.com/14895/tdkmlcccaprange-14895670.pdf?src-supplier=Digikey; ComponentLink4URL: https://datasheet.ciiva.com/14895/tdkmlcccaprange-14895672.pdf?src-supplier=Digikey; ComponentLink4Description: https://datasheet.ciiva.com/14895/tdkmlcccaprange-14895672.pdf?src-supplier=Digikey
footprint CAP_0402
pins: 1, 2

## CAP_4.7uF_16V_10%_X7R_0805
designator C?, comment 4.7uF
Ceramic Capacitor, Multilayer, Ceramic, 16V, 10% +Tol, 10% -Tol, X7R, 15% TC, 4.7uF, Surface Mount, 0805; Manufacturer: Murata; Manufacturer Part Number: GRM21BR71C475KE51L; Multilayer: Yes; Supplier: Farnell; Supplier Part Number: 2688537; RoHS: Yes; Category: Ceramic Capacitors; Stock: 25429; Pricing: 5=0.0773, 50=0.0454, 250=0.0356, 500=0.0258, 1500=0.0253 (EUR); Mounting Technology: Surface Mount; Pins: 2; Dielectric Material: Ceramic; Package Shape: Rectangular; Case/Package: 0805; Terminal Finish: Nickel; Min Operating Temperature: -55°C; Max Operating Temperature: 125°C; JESD-609 Code: e3; Value: 4.7uF; Capacitor Type: Ceramic; Tolerance  (fill in as +-): 10%; Packaging: Tape and Reel; Tolerance (fill in as +-): 10%; Rated DC Voltage (URdc): 16V; Temperature Characteristics Code: X7R; Termination: Wraparound; Reach SVHC Compliant: Yes; RoHS Compliant: Yes; ComponentLink1URL: https://datasheet.ciiva.com:443/pdfs/VipMasterIC/IC/MURE/MURE-S-A0004349797/MURE-S-A0004361408-1.pdf?src-supplier=IHS+Markit; ComponentLink1Description: https://datasheet.ciiva.com:443/pdfs/VipMasterIC/IC/MURE/MURE-S-A0004349797/MURE-S-A0004361408-1.pdf?src-supplier=IHS+Markit; ComponentLink2URL: http://www.farnell.com/datasheets/2189142.pdf?src-supplier=Farnell; ComponentLink2Description: http://www.farnell.com/datasheets/2189142.pdf?src-supplier=Farnell; ComponentLink3URL: http://search.murata.co.jp/Ceramy/image/img/A01X/G101/ENG/GRM21BR71C475KE51-01.pdf?src-supplier=Digikey; ComponentLink3Description: http://search.murata.co.jp/Ceramy/image/img/A01X/G101/ENG/GRM21BR71C475KE51-01.pdf?src-supplier=Digikey; ComponentLink4URL: https://datasheet.octopart.com/GRM21BR71C475KE51L-Murata-datasheet-68590491.pdf?src-supplier=Newark; ComponentLink4Description: https://datasheet.octopart.com/GRM21BR71C475KE51L-Murata-datasheet-68590491.pdf?src-supplier=Newark
footprint CAP_0805
pins: 1, 2

## CAP_4.7uF_25V_10%_X7R_0805
designator C?, comment 4.7uF
Ceramic Capacitor, Multilayer, Ceramic, 25V, 10% +Tol, 10% -Tol, X7R, 15% TC, 4.7uF, Surface Mount, 0805; Manufacturer: KEMET; Manufacturer Part Number: C0805C475K3RACAUTO; Supplier: Rs; Supplier Part Number: 1882142; RoHS: Yes; Category: Ceramic Capacitors; Stock: 6450; Pricing: 25=0.308, 100=0.27, 500=0.258, 1000=0.247 (EUR); RoHS Compliant: Yes; ComponentLink1URL: https://datasheet.ciiva.com:443/pdfs/VipMasterIC/IC/KEME/KEME-S-A0009891634/KEME-S-A0009891634-1.pdf?src-supplier=IHS+Markit; ComponentLink1Description: https://datasheet.ciiva.com:443/pdfs/VipMasterIC/IC/KEME/KEME-S-A0009891634/KEME-S-A0009891634-1.pdf?src-supplier=IHS+Markit; ComponentLink2URL: https://api.kemet.com/component-edge/download/datasheet/C0805C475K3RACAUTO.pdf?src-supplier=Digikey; ComponentLink2Description: https://api.kemet.com/component-edge/download/datasheet/C0805C475K3RACAUTO.pdf?src-supplier=Digikey; ComponentLink3URL: https://datasheet.octopart.com/C0805C475K3RACAUTO-KEMET-datasheet-149529924.pdf?src-supplier=Element14; ComponentLink3Description: https://datasheet.octopart.com/C0805C475K3RACAUTO-KEMET-datasheet-149529924.pdf?src-supplier=Element14; ComponentLink4URL: http://www.farnell.com/datasheets/2818558.pdf?src-supplier=Newark; ComponentLink4Description: http://www.farnell.com/datasheets/2818558.pdf?src-supplier=Newark; ComponentLink5URL: https://datasheet.octopart.com/C0805C475K3RACAUTO-KEMET-datasheet-140424753.pdf?src-supplier=TME; ComponentLink5Description: https://datasheet.octopart.com/C0805C475K3RACAUTO-KEMET-datasheet-140424753.pdf?src-supplier=TME
footprint CAP_0805
pins: 1, 2

## CAP_5.6pF_50V_4.46%_0402
designator C?, comment 5.6pF
Ceramic Capacitor, Multilayer, Ceramic, 50V, 4.46% +Tol, 4.46% -Tol, C0G, 30ppm/Cel TC, 0.0000056uF, Surface Mount, 0402; Manufacturer: Murata; Manufacturer Part Number: GJM1555C1H5R6CB01D; Multilayer: Yes; Supplier: Mouser; Supplier Part Number: 81-GJM1555C1H5R6CB01; RoHS: Yes; Category: Ceramic Capacitors; Stock: 72241; Pricing: 1=0.1, 10=0.032, 50=0.032, 100=0.02, 1000=0.013, 10000=0.008 (USD); Mounting Technology: Surface Mount; Pins: 2; Dielectric Material: Ceramic; Package Shape: Rectangular; Case/Package: 0402; Terminal Finish: Nickel; Min Operating Temperature: -55°C; Max Operating Temperature: 125°C; JESD-609 Code: e3; Value: 5.6pF; Capacitor Type: Ceramic; Tolerance  (fill in as +-): 4.46%; Package Style: SMTMeter; Packaging: Tape and Reel; Tolerance (fill in as +-): 4.46%; Rated DC Voltage (URdc): 50V; Temperature Characteristics Code: C0G; Termination: Wraparound; Length: 1mm; Width: 0.5mm; Height: 0.5mm; Reach SVHC Compliant: Yes; RoHS Compliant: Yes; ComponentLink1URL: https://datasheet.ciiva.com:443/pdfs/VipMasterIC/IC/MURE/MURE-S-A0004378008/MURE-S-A0004382951-1.pdf?src-supplier=IHS+Markit; ComponentLink1Description: https://datasheet.ciiva.com:443/pdfs/VipMasterIC/IC/MURE/MURE-S-A0004378008/MURE-S-A0004382951-1.pdf?src-supplier=IHS+Markit; ComponentLink2URL: https://datasheet.ciiva.com/133/product-133105.pdf?src-supplier=Digikey; ComponentLink2Description: https://datasheet.ciiva.com/133/product-133105.pdf?src-supplier=Digikey; ComponentLink3URL: https://datasheet.ciiva.com/18183/getdatasheetpartid-573983-18183855.pdf?src-supplier=Verical; ComponentLink3Description: https://datasheet.ciiva.com/18183/getdatasheetpartid-573983-18183855.pdf?src-supplier=Verical; ComponentLink4URL: https://datasheet.ciiva.com/133/partnumbering-e-01-133106.pdf?src-supplier=Digikey; ComponentLink4Description: https://datasheet.ciiva.com/133/partnumbering-e-01-133106.pdf?src-supplier=Digikey; ComponentLink5URL: https://datasheet.ciiva.com/133/partnumbering-e-01-133107.pdf?src-supplier=Digikey; ComponentLink5Description: https://datasheet.ciiva.com/133/partnumbering-e-01-133107.pdf?src-supplier=Digikey; ComponentLink6URL: https://datasheet.ciiva.com/11612/product-11612310.pdf?src-supplier=Avnet; ComponentLink6Description: https://datasheet.ciiva.com/11612/product-11612310.pdf?src-supplier=Avnet; ComponentLink7URL: https://datasheet.ciiva.com/16440/l0005e-16440463.pdf?src-supplier=Future+Electronics; ComponentLink7Description: https://datasheet.ciiva.com/16440/l0005e-16440463.pdf?src-supplier=Future+Electronics
footprint CAP_0402
pins: 1, 2

## CAP_10nF-10V-10%-0402
designator C?, comment 10nF
0402 10 nF 10 V ±10 % Tolerance X7R Surface Mount Multilayer Ceramic Capacitor; Manufacturer: AVX Corporation; Manufacturer Part Number: 0402ZC103KAT2A; Manufacturer 1: Kyocera AVX; Case/Package: 0402; Supplier-1: Digikey; Supplier 1: Mouser; Manufacturer Part Number 1: 0402ZC103KAT2A; RoHS: Yes; Category: Ceramic Capacitors; Stock 1: 46520; Pricing 1: 1=0.23, 10=0.14, 50=0.14, 100=0.078, 1000=0.056, 10000=0.043 (USD); ComponentLink1URL: https://datasheet.ciiva.com/206/cx7r-206671.pdf?src-supplier=Digi-Key; ComponentLink1Description: https://datasheet.ciiva.com/206/cx7r-206671.pdf?src-supplier=Digi-Key; ComponentLink2URL: https://datasheet.ciiva.com/7614/cx7r-7614631.pdf?src-supplier=Digi-Key; ComponentLink2Description: https://datasheet.ciiva.com/7614/cx7r-7614631.pdf?src-supplier=Digi-Key; ComponentLink3URL: https://datasheet.ciiva.com/28454/1679506-28454294.pdf?src-supplier=Element14; ComponentLink3Description: https://datasheet.ciiva.com/28454/1679506-28454294.pdf?src-supplier=Element14; ComponentLink4URL: https://datasheet.ciiva.com/22619/1679506-22619800.pdf?src-supplier=Element14; ComponentLink4Description: https://datasheet.ciiva.com/22619/1679506-22619800.pdf?src-supplier=Element14; ComponentLink5URL: https://datasheet.ciiva.com/28620/1679506-28620989.pdf?src-supplier=Element14; ComponentLink5Description: https://datasheet.ciiva.com/28620/1679506-28620989.pdf?src-supplier=Element14; Supplier Part Number 1: 581-0402ZC103KAT2A
footprint CAP_0402 (Capacitor)
pins: 1, 2

## CAP_10nF_10V_10%_X7R_0603
designator C?, comment 10nF
Multilayer Ceramic Capacitor, 0.01 uF, 10 V, ± 10%, X7R, 0603 [1608 Metric]; Manufacturer: KEMET; Manufacturer Part Number: C0603C103K8RACTU; Voltage Rating: 10V; Dissipation Factor: 5%; Case/Package: 0603; Supplier-1: Digikey; Supplier 1: Mouser; Manufacturer 1: KEMET; Manufacturer Part Number 1: C0603C103K8RACTU; RoHS: Yes; Category: Ceramic Capacitors; Stock 1: 6134; Pricing 1: 1=0.1, 10=0.034, 50=0.034, 100=0.02, 1000=0.016, 10000=0.011 (USD); Mount: Surface Mount; Case Code (Metric): 1608; Case Code (Imperial): 0603; Dielectric Material: Ceramic; Min Operating Temperature: -55°C; Max Operating Temperature: 125°C; Capacitance: 10nF; Tolerance: 10%; Package Quantity: 1; Packaging: Tape and Reel; Voltage Rating (DC): 10V; Dielectric: X7R; Termination: SMD/SMT; Series: -; Construction: Flat; Length: 1.6mm; Width: 0.031inch; Height: 0.8mm; Thickness: 0.034inch; Lead Pitch: 0.7mm; Depth: 0.8mm; Reach SVHC Compliant: No; ComponentLink1URL: https://datasheet.ciiva.com/49516/1564916-49516523.pdf?src-supplier=Jameco; ComponentLink1Description: https://datasheet.ciiva.com/49516/1564916-49516523.pdf?src-supplier=Jameco; Supplier Part Number 1: 80-C0603C103K8R
footprint CAP_0603
pins: 1, 2

## CAP_10nF_25V_10%_X7R_0603
designator C?, comment 10nF
Multilayer Ceramic Capacitor, 0.01 uF, 25 V, ± 10%, X7R, 0603 [1608 Metric]; Manufacturer: KEMET; Manufacturer Part Number: C0603C103K3RACTU; Material: 4241ConductorMaterial; Voltage Rating: 25V; Temperature Coefficient: 30ppm/°C; Supplier 1: Digi-Key; RoHS: Yes; Category: Ceramic Capacitors; Stock 1: 402398; Pricing 1: 1=0.1, 10=0.059, 50=0.0322, 100=0.0263, 500=0.01882, 1000=0.01478 (USD); Mount: Surface Mount,PCB; Case/Package: 0603; Number of Pins: 2; Case Code (Metric): 1608; Case Code (Imperial): 0603; Dielectric Material: 4241ConductorMaterial; Min Operating Temperature: -55°C; Max Operating Temperature: 125°C; Capacitance: 10nF; Tolerance: 10%; Dielectric: X7R; Packaging: Tape and Reel; Package Quantity: 1; Voltage Rating (DC): 25V; Termination: SMD/SMT; Voltage: 25V; Series: C; Construction: Flat; Length: 1.6mm; Width: 0.031inch; Height: 0.8mm; Thickness: 0.034inch; Depth: 0.8mm; Radiation Hardening: No; Reach SVHC Compliant: No; RoHS Compliant: Yes; ComponentLink1URL: https://datasheet.ciiva.com/5904/kem-c1002-x7r-smd-5904903.pdf?src-supplier=Farnell; ComponentLink1Description: https://datasheet.ciiva.com/5904/kem-c1002-x7r-smd-5904903.pdf?src-supplier=Farnell; ComponentLink2URL: https://datasheet.ciiva.com/7823/kem-c1002-x7r-smd-7823974.pdf?src-supplier=Element14; ComponentLink2Description: https://datasheet.ciiva.com/7823/kem-c1002-x7r-smd-7823974.pdf?src-supplier=Element14; ComponentLink3URL: https://datasheet.ciiva.com/46385/1851736-46385372.pdf?src-supplier=Element14; ComponentLink3Description: https://datasheet.ciiva.com/46385/1851736-46385372.pdf?src-supplier=Element14; ComponentLink4URL: https://datasheet.ciiva.com/46448/1851736-46448649.pdf?src-supplier=Element14; ComponentLink4Description: https://datasheet.ciiva.com/46448/1851736-46448649.pdf?src-supplier=Element14; ComponentLink5URL: https://datasheet.ciiva.com/14589/70095383-14589438.pdf?src-supplier=Allied+Electronics; ComponentLink5Description: https://datasheet.ciiva.com/14589/70095383-14589438.pdf?src-supplier=Allied+Electronics; ComponentLink6URL: https://datasheet.ciiva.com/14609/70095383-14609646.pdf?src-supplier=Allied+Electronics; ComponentLink6Description: https://datasheet.ciiva.com/14609/70095383-14609646.pdf?src-supplier=Allied+Electronics; Supplier Part Number 1: 399-C0603C103K3RAC7867CT-ND
footprint CAP_0603 (Chip Capacitor 0603, 2-Leads, Body 1.68x0.88mm, IPC Medium Density)
pins: 1, 2